# Altium footprint library Seven_Segment_PCB.PcbLib: 1 footprints
Each footprint in its own frame and in the unit in brackets; x right, y up, seen from the top. Pads: shape width x height; smd on the part's side, far side on the other; paste and mask are expansions set on the pad; w line width, h text height; cw(c..) or ccw(c..) is an arc to the next point about the centre after c.
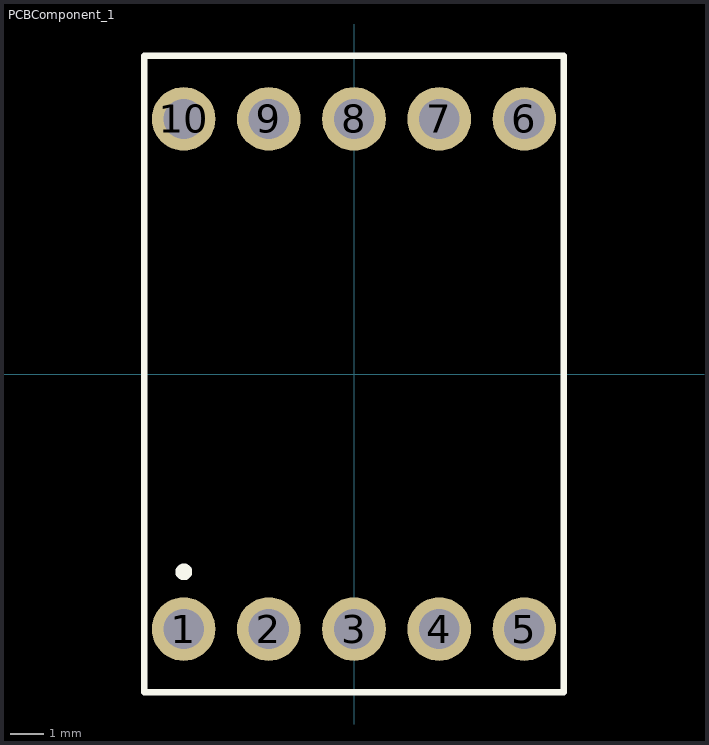
[diagram p0: the footprint, top view; thin cyan lines are the x and y axes]

## PCBComponent_1 [mm]
pads (11):
  round 1.9 hole 1.2: 1(-5.08,-7.607) 1(-5.08,-7.607) 2(-2.54,-7.607) 3(0,-7.607) 4(2.54,-7.607) 5(5.08,-7.607) 6(5.08,7.607) 7(2.54,7.607) 8(0,7.607) 9(-2.54,7.607) 10(-5.08,7.607)
Top Overlay:
  circle w0.3: c-5.075,-5.9 r0.1
  lines w0.2: -6.25,-9.487 6.25,-9.487 6.25,9.487 -6.25,9.487 -6.25,-9.487
3D body "User Library-7-Segment.STEP": height 8, standoff -6.3, extent -6.325,-9.519 6.275,9.481